# Altium schematic symbol library SchlibUltimate (2).schlib: 211 symbols (part 3 of 4)
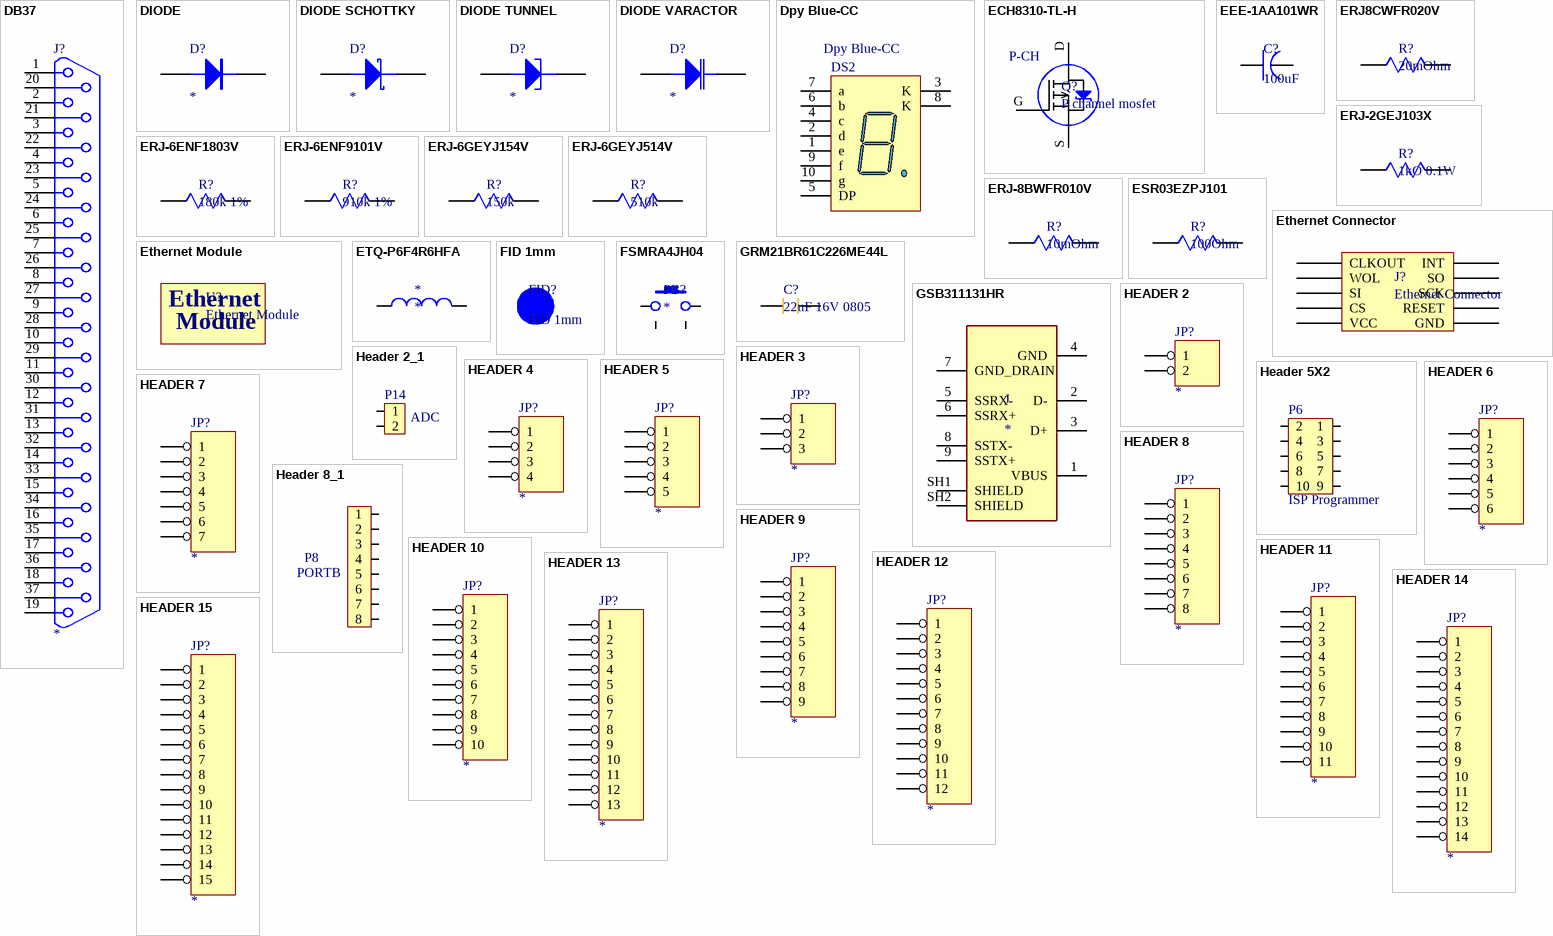
[diagram p7: symbols DB37 to HEADER 15]

## ERJ-6ENF1803V
designator R?, comment 180k 1%
Thick Film Resistors - SMD 0805 180Kohms 1% AEC-Q200; Manufacturer 1: Panasonic; Manufacturer Part Number 1: ERJ-6ENF1803V; Resistance: 180kR; Power Rating: 125mW; Voltage Rating: 150V; Temperature Coefficient: 100ppm/°C; Supplier 1: Digi-Key; Stock 1: 39178; Pricing 1: 1=0.10000, 10=0.08500, 100=0.03290, 1000=0.01445, 2500=0.01248 (USD); RoHS: Yes; Mount: Surface Mount; Case/Package: 0805; Number of Pins: 2; Case Code (Metric): 2012; Case Code (Imperial): 0805; Contact Plating: Tin; Min Operating Temperature: -55°C; Max Operating Temperature: 155°C; Tolerance: 1%; Packaging: Tape and Reel; Package Quantity: 1; Composition: Thick Film; Number of Terminations: 2; Termination: SMD/SMT; Military Standard: Not; Max Power Dissipation: 125mW; Voltage Rating (DC): 150V; Features: Automotive AEC-Q200; Length: 2mm; Height: 0.6mm; Width: 0.049inch; Depth: 1.25mm; Radiation Hardening: No; REACH SVHC: No SVHC; ComponentLink1URL: https://datasheet.ciiva.com/11821/0900766b80f80784-11821551.pdf?src-supplier=RSComponents; ComponentLink1Description: https://datasheet.ciiva.com/11821/0900766b80f80784-11821551.pdf?src-supplier=RSComponents; ComponentLink2URL: https://datasheet.ciiva.com/16758/70260748-16758997.pdf?src-supplier=Allied+Electronics; ComponentLink2Description: https://datasheet.ciiva.com/16758/70260748-16758997.pdf?src-supplier=Allied+Electronics; ComponentLink3URL: https://datasheet.ciiva.com/7836/426256-7836822.pdf?src-supplier=Element14; ComponentLink3Description: https://datasheet.ciiva.com/7836/426256-7836822.pdf?src-supplier=Element14; ComponentLink4URL: https://datasheet.ciiva.com/7836/426256-7836535.pdf?src-supplier=Element14; ComponentLink4Description: https://datasheet.ciiva.com/7836/426256-7836535.pdf?src-supplier=Element14; ComponentLink5URL: https://datasheet.ciiva.com/9185/aoa0000ce2-9185015.pdf?src-supplier=Avnet; ComponentLink5Description: https://datasheet.ciiva.com/9185/aoa0000ce2-9185015.pdf?src-supplier=Avnet; ComponentLink6URL: https://datasheet.ciiva.com/46398/1678782-46398137.pdf?src-supplier=Element14; ComponentLink6Description: https://datasheet.ciiva.com/46398/1678782-46398137.pdf?src-supplier=Element14; ComponentLink7URL: https://datasheet.ciiva.com/5915/426256-5915338.pdf?src-supplier=Farnell; ComponentLink7Description: https://datasheet.ciiva.com/5915/426256-5915338.pdf?src-supplier=Farnell; ComponentLink8URL: https://datasheet.ciiva.com/17207/aoa0000ce2-17207210.pdf?src-supplier=Avnet+Europe; ComponentLink8Description: https://datasheet.ciiva.com/17207/aoa0000ce2-17207210.pdf?src-supplier=Avnet+Europe; ComponentLink9URL: https://datasheet.ciiva.com/28568/1678782-28568746.pdf?src-supplier=Element14; ComponentLink9Description: https://datasheet.ciiva.com/28568/1678782-28568746.pdf?src-supplier=Element14; ComponentLink10URL: https://datasheet.ciiva.com/46398/1678782-46398138.pdf?src-supplier=Element14; ComponentLink10Description: https://datasheet.ciiva.com/46398/1678782-46398138.pdf?src-supplier=Element14; ComponentLink11URL: https://datasheet.ciiva.com/22681/1678782-22681691.pdf?src-supplier=Element14; ComponentLink11Description: https://datasheet.ciiva.com/22681/1678782-22681691.pdf?src-supplier=Element14; ComponentLink12URL: https://datasheet.ciiva.com/16780/70260748-16780877.pdf?src-supplier=Allied+Electronics; ComponentLink12Description: https://datasheet.ciiva.com/16780/70260748-16780877.pdf?src-supplier=Allied+Electronics; ComponentLink13URL: https://datasheet.ciiva.com/30187/aoa0000ce2-30187757.pdf?src-supplier=Onlinecomponents.com; ComponentLink13Description: https://datasheet.ciiva.com/30187/aoa0000ce2-30187757.pdf?src-supplier=Onlinecomponents.com; ComponentLink14URL: https://datasheet.ciiva.com/24024/aoa0000ce2-24024447.pdf?src-supplier=Mouser; ComponentLink14Description: https://datasheet.ciiva.com/24024/aoa0000ce2-24024447.pdf?src-supplier=Mouser; Supplier Part Number 1: P180KCCT-ND
footprint R0805
pins: 1, 2

## ERJ-6ENF9101V
designator R?, comment 910k 1%
Res Thick Film 0805 9.1K Ohm 1% 1/8W +/-100ppm/ßC Molded SMD Punched Carrier T/R; Manufacturer 1: Panasonic; Manufacturer Part Number 1: ERJ-6ENF9101V; Resistance: 9.1kR; Power Rating: 125mW; Voltage Rating: 150V; Temperature Coefficient: 100ppm/°C; Supplier 1: Digi-Key; Stock 1: 3180; Pricing 1: 1=0.10000, 10=0.07200, 100=0.02750, 1000=0.01210, 2500=0.01045 (USD); RoHS: Yes; Mount: Surface Mount; Case/Package: 0805; Case Code (Imperial): 0805; Case Code (Metric): 2012; Contact Plating: Tin; Min Operating Temperature: -55°C; Max Operating Temperature: 155°C; Tolerance: 1%; Packaging: Tape and Reel; Package Quantity: 1; Composition: Thick Film; Number of Terminations: 2; Military Standard: Not; Max Power Dissipation: 125mW; Features: Automotive AEC-Q200; Termination: SMD/SMT; Voltage Rating (DC): 150V; Length: 2mm; Height: 0.6mm; Width: 1.2mm; Depth: 1.25mm; Radiation Hardening: No; REACH SVHC: No SVHC; Lead Free: Lead Free; ComponentLink1URL: https://datasheet.ciiva.com/11821/0900766b80f80784-11821718.pdf?src-supplier=RSComponents; ComponentLink1Description: https://datasheet.ciiva.com/11821/0900766b80f80784-11821718.pdf?src-supplier=RSComponents; ComponentLink2URL: https://datasheet.ciiva.com/16437/aoa0000ce2-16437783.pdf?src-supplier=Future+Electronics; ComponentLink2Description: https://datasheet.ciiva.com/16437/aoa0000ce2-16437783.pdf?src-supplier=Future+Electronics; ComponentLink3URL: https://datasheet.ciiva.com/30163/aoa0000ce2-30163272.pdf?src-supplier=Onlinecomponents.com; ComponentLink3Description: https://datasheet.ciiva.com/30163/aoa0000ce2-30163272.pdf?src-supplier=Onlinecomponents.com; ComponentLink4URL: https://datasheet.ciiva.com/16766/70260748-16766713.pdf?src-supplier=Allied+Electronics; ComponentLink4Description: https://datasheet.ciiva.com/16766/70260748-16766713.pdf?src-supplier=Allied+Electronics; ComponentLink5URL: https://datasheet.ciiva.com/16785/70260748-16785210.pdf?src-supplier=Allied+Electronics; ComponentLink5Description: https://datasheet.ciiva.com/16785/70260748-16785210.pdf?src-supplier=Allied+Electronics; ComponentLink6URL: https://datasheet.ciiva.com/17212/aoa0000ce2-17212221.pdf?src-supplier=Avnet+Europe; ComponentLink6Description: https://datasheet.ciiva.com/17212/aoa0000ce2-17212221.pdf?src-supplier=Avnet+Europe; Supplier Part Number 1: P9.10KCCT-ND
footprint R0805
pins: 1, 2

## ERJ-6GEYJ154V
designator R?, comment 150k
RES SMD 150K OHM 5% 1/8W 0805; Manufacturer 1: Panasonic; Manufacturer Part Number 1: ERJ-6GEYJ154V; Resistance: 150kR; Power Rating: 125mW; Voltage Rating: 150V; Temperature Coefficient: 200ppm/°C; Supplier 1: Digi-Key; Stock 1: 100014; Pricing 1: 1=0.10000, 10=0.05200, 100=0.02120, 1000=0.00954, 2500=0.00828 (USD); RoHS: Yes; Mount: Surface Mount; Case/Package: 0805; Case Code (Metric): 2012; Case Code (Imperial): 0805; Contact Plating: Tin; Min Operating Temperature: -55°C; Max Operating Temperature: 155°C; Tolerance: 5%; Packaging: Tape and Reel; Package Quantity: 5000; Composition: Thick Film; Number of Terminations: 2; Military Standard: Not; Termination: SMD/SMT; Max Power Dissipation: 125mW; Voltage Rating (DC): 150V; Length: 2mm; Height: 0.028inch; Width: 0.049inch; Depth: 1.25mm; Radiation Hardening: No; REACH SVHC: No SVHC; Lead Free: Lead Free; ComponentLink1URL: https://datasheet.ciiva.com/3882/41790015s9557575n1386-3882896.pdf?src-supplier=Arrow+Electronics; ComponentLink1Description: https://datasheet.ciiva.com/3882/41790015s9557575n1386-3882896.pdf?src-supplier=Arrow+Electronics; ComponentLink2URL: https://datasheet.ciiva.com/17207/aoa0000ce1-17207480.pdf?src-supplier=Avnet+Europe; ComponentLink2Description: https://datasheet.ciiva.com/17207/aoa0000ce1-17207480.pdf?src-supplier=Avnet+Europe; ComponentLink3URL: https://datasheet.ciiva.com/43460/1500035-43460137.pdf?src-supplier=Farnell; ComponentLink3Description: https://datasheet.ciiva.com/43460/1500035-43460137.pdf?src-supplier=Farnell; ComponentLink4URL: https://datasheet.ciiva.com/46373/1500035-46373995.pdf?src-supplier=Element14; ComponentLink4Description: https://datasheet.ciiva.com/46373/1500035-46373995.pdf?src-supplier=Element14; ComponentLink5URL: https://datasheet.ciiva.com/16781/70255313-16781804.pdf?src-supplier=Allied+Electronics; ComponentLink5Description: https://datasheet.ciiva.com/16781/70255313-16781804.pdf?src-supplier=Allied+Electronics; ComponentLink6URL: https://datasheet.ciiva.com/28691/1678796-28691981.pdf?src-supplier=Element14; ComponentLink6Description: https://datasheet.ciiva.com/28691/1678796-28691981.pdf?src-supplier=Element14; ComponentLink7URL: https://datasheet.ciiva.com/16516/aoa0000ce1-16516415.pdf?src-supplier=Avnet+Asia; ComponentLink7Description: https://datasheet.ciiva.com/16516/aoa0000ce1-16516415.pdf?src-supplier=Avnet+Asia; Supplier Part Number 1: P150KACT-ND
footprint R0805
pins: 1, 2

## ERJ-6GEYJ514V
designator R?, comment 510k
RES SMD 510K OHM 5% 1/8W 0805; Manufacturer 1: Panasonic; Manufacturer Part Number 1: ERJ-6GEYJ514V; Resistance: 510kR; Power Rating: 125mW; Voltage Rating: 150V; Temperature Coefficient: 200ppm/°C; Supplier 1: Digi-Key; Stock 1: 14917; Pricing 1: 1=0.10000, 10=0.05200, 100=0.02120, 1000=0.00954, 2500=0.00828 (USD); RoHS: Yes; Mount: Surface Mount; Case/Package: 0805; Weight: 0.000194oz; Case Code (Metric): 2012; Case Code (Imperial): 0805; Contact Plating: Tin; Min Operating Temperature: -55°C; Max Operating Temperature: 155°C; Tolerance: 5%; Packaging: Tape and Reel; Package Quantity: 5000; Composition: Thick Film; Number of Terminations: 2; Termination: SMD/SMT; Military Standard: Not; Max Power Dissipation: 125mW; Voltage Rating (DC): 150V; Length: 2mm; Height: 0.6mm; Width: 0.049inch; Depth: 1.25mm; REACH SVHC: No SVHC; Lead Free: Contains Lead; ComponentLink1URL: https://datasheet.ciiva.com/30081/4aoa0000ce1-30081333.pdf?src-supplier=Onlinecomponents.com; ComponentLink1Description: https://datasheet.ciiva.com/30081/4aoa0000ce1-30081333.pdf?src-supplier=Onlinecomponents.com; ComponentLink2URL: https://datasheet.ciiva.com/24163/aoa0000ce1-37422-24163640.pdf?src-supplier=Mouser; ComponentLink2Description: https://datasheet.ciiva.com/24163/aoa0000ce1-37422-24163640.pdf?src-supplier=Mouser; ComponentLink3URL: https://datasheet.ciiva.com/43469/1678796-43469657.pdf?src-supplier=Farnell; ComponentLink3Description: https://datasheet.ciiva.com/43469/1678796-43469657.pdf?src-supplier=Farnell; ComponentLink4URL: https://datasheet.ciiva.com/16767/70255313-16767419.pdf?src-supplier=Allied+Electronics; ComponentLink4Description: https://datasheet.ciiva.com/16767/70255313-16767419.pdf?src-supplier=Allied+Electronics; ComponentLink5URL: https://datasheet.ciiva.com/16771/70255313-16771371.pdf?src-supplier=Allied+Electronics; ComponentLink5Description: https://datasheet.ciiva.com/16771/70255313-16771371.pdf?src-supplier=Allied+Electronics; ComponentLink6URL: https://datasheet.ciiva.com/9181/aoa0000ce1-9181469.pdf?src-supplier=Avnet; ComponentLink6Description: https://datasheet.ciiva.com/9181/aoa0000ce1-9181469.pdf?src-supplier=Avnet; ComponentLink7URL: https://datasheet.ciiva.com/8081/aoa0000ce1-8081327.pdf?src-supplier=Element14; ComponentLink7Description: https://datasheet.ciiva.com/8081/aoa0000ce1-8081327.pdf?src-supplier=Element14; Supplier Part Number 1: P510KACT-ND
footprint R0805
pins: 1, 2

## ERJ-8BWFR010V
designator R?, comment 10mOhm
PANASONIC - ERJ-8BWFR010V - SMD Current Sense Resistor, 0.01 ohm, ERJ8B Series, 1206 [3216 Metric], 1 W, ± 1%, Thick Film; Resistance: 10mR; Power Rating: 1W; Temperature Coefficient: 200ppm/°C; Supplier 1: Digi-Key; Manufacturer 1: Panasonic; Manufacturer Part Number 1: ERJ-8BWFR010V; Stock 1: 16754; Pricing 1: 1=0.60000, 10=0.50000, 100=0.33550, 1000=0.19632, 2500=0.19418 (USD); RoHS: Yes; Mount: Surface Mount; Case/Package: 1206; Case Code (Imperial): 1206; Case Code (Metric): 3216; Contact Plating: Tin; Min Operating Temperature: -55°C; Max Operating Temperature: 155°C; Tolerance: 1%; Packaging: Tape and Reel; Package Quantity: 1; Composition: Thick Film,Low-Ohm-Resistor; Termination: SMD/SMT; Number of Terminations: 2; Military Standard: Not; Max Power Dissipation: 1W; Features: Automotive AEC-Q200; Length: 3.2mm; Height: 0.65mm; Width: 1.6mm; Depth: 1.6mm; Radiation Hardening: No; REACH SVHC: No SVHC; Lead Free: Lead Free; ComponentLink1URL: https://datasheet.ciiva.com/11811/0900766b8126441d-11811746.pdf?src-supplier=RSComponents; ComponentLink1Description: https://datasheet.ciiva.com/11811/0900766b8126441d-11811746.pdf?src-supplier=RSComponents; ComponentLink2URL: https://datasheet.ciiva.com/9194/aoa0000ce3-9194119.pdf?src-supplier=Avnet; ComponentLink2Description: https://datasheet.ciiva.com/9194/aoa0000ce3-9194119.pdf?src-supplier=Avnet; ComponentLink3URL: https://datasheet.ciiva.com/30095/6aoa0000ce3-30095514.pdf?src-supplier=Onlinecomponents.com; ComponentLink3Description: https://datasheet.ciiva.com/30095/6aoa0000ce3-30095514.pdf?src-supplier=Onlinecomponents.com; ComponentLink4URL: https://datasheet.ciiva.com/48532/erj-eng-tds-48532746.pdf?src-supplier=Distrelec; ComponentLink4Description: https://datasheet.ciiva.com/48532/erj-eng-tds-48532746.pdf?src-supplier=Distrelec; ComponentLink5URL: https://datasheet.ciiva.com/2451/aoa0000ce3-2451517.pdf?src-supplier=Digi-Key; ComponentLink5Description: https://datasheet.ciiva.com/2451/aoa0000ce3-2451517.pdf?src-supplier=Digi-Key; ComponentLink6URL: https://datasheet.ciiva.com/2451/aoa0000ce3-2451518.pdf?src-supplier=Digi-Key; ComponentLink6Description: https://datasheet.ciiva.com/2451/aoa0000ce3-2451518.pdf?src-supplier=Digi-Key; ComponentLink7URL: https://datasheet.ciiva.com/17212/aoa0000ce3-17212030.pdf?src-supplier=Avnet+Europe; ComponentLink7Description: https://datasheet.ciiva.com/17212/aoa0000ce3-17212030.pdf?src-supplier=Avnet+Europe; ComponentLink8URL: https://datasheet.ciiva.com/2451/aoa0000ce3-2451519.pdf?src-supplier=Digi-Key; ComponentLink8Description: https://datasheet.ciiva.com/2451/aoa0000ce3-2451519.pdf?src-supplier=Digi-Key; ComponentLink9URL: https://datasheet.ciiva.com/28532/39793-28532991.pdf?src-supplier=Element14; ComponentLink9Description: https://datasheet.ciiva.com/28532/39793-28532991.pdf?src-supplier=Element14; Supplier Part Number 1: P.010AUCT-ND
footprint R1206
pins: 1, 2

## ESR03EZPJ101
designator R?, comment 100Ohm
ROHM - ESR03EZPJ101 - SMD Chip Resistor, Anti-Surge, 0603 [1608 Metric], 100 ohm, ESR Series, 150 V, Thick Film, 250 mW - SMD Chip Resistor, Anti-Surge, 0603 [1608 Metric], 100 ohm, ESR Series, 150 V, Thick Film, 250 mW; Temperature Coefficient: 200ppm/°C; Power Rating: 200mW; Resistance: 100R; Tolerance: 5%; Supplier 1: Digi-Key; Manufacturer 1: Rohm; Manufacturer Part Number 1: ESR03EZPJ101; Stock 1: 68293; Pricing 1: 1=0.10000, 10=0.07600, 100=0.02920, 1000=0.01283, 2500=0.01108 (USD); RoHS: Yes; Case/Package: 0603; Lead Free: Lead Free; ComponentLink1URL: https://datasheet.ciiva.com/16218/esr-16218543.pdf?src-supplier=Future+Electronics; ComponentLink1Description: https://datasheet.ciiva.com/16218/esr-16218543.pdf?src-supplier=Future+Electronics; Supplier Part Number 1: RHM100DCT-ND
footprint R0603
pins: 1, 2

## Ethernet Connector
designator J?
footprint Ethernet Connector
pins: CLKOUT, CS, GND, INT, RESET, SCK, SI, SO, VCC, WOL

## Ethernet Module
designator U?
footprint Ethernet Module
text: Ethernet; Module

## ETQ-P6F4R6HFA
designator *
Power Choke Molded Wirewound 6.6uH/4.6uH 25% 100KHz 9.3A 6.48mOhm DCR T/R; Manufacturer 1: Panasonic; Manufacturer Part Number 1: ETQ-P6F4R6HFA; Core Material: Metal,Composite; Inductance: 4.6uH; DC Resistance (DCR): 6.48mR; Shielding: Unshielded; Saturation Current: 6.2A; Current: 16A; Insulation Resistance: 10MR; Supplier 1: Farnell; Stock 1: 0; Pricing 1: 1=2.47000, 10=1.94000, 50=1.63000, 100=1.28000, 200=1.23000, 500=1.17000, 2500=1.12000 (GBP); RoHS: Yes; Mount: Surface Mount; Case/Package: SMD/SMT; Min Operating Temperature: -40°C; Max Operating Temperature: 150°C; Tolerance: 25%; Max DC Current: 9.3A; Packaging: Tape and Reel; Inductance Tolerance: 25%; Package Quantity: 500; Current Rating: 9.3A; Termination: SMD/SMT; Test Frequency: 100kHz; RMS Current (Irms): 9.3A; DC Current: 9.3A; Military Standard: Not; Length: 12.5mm; Height: 5.7mm; Depth: 12.8mm; Width: 12.5mm; REACH SVHC: No SVHC; Lead Free: Lead Free; ComponentLink1URL: https://datasheet.ciiva.com/11799/0900766b80befd5f-11799896.pdf?src-supplier=RSComponents; ComponentLink1Description: https://datasheet.ciiva.com/11799/0900766b80befd5f-11799896.pdf?src-supplier=RSComponents; ComponentLink2URL: https://datasheet.ciiva.com/6057/1672243-6057434.pdf?src-supplier=Farnell; ComponentLink2Description: https://datasheet.ciiva.com/6057/1672243-6057434.pdf?src-supplier=Farnell; ComponentLink3URL: https://datasheet.ciiva.com/43484/34083-43484636.pdf?src-supplier=Farnell; ComponentLink3Description: https://datasheet.ciiva.com/43484/34083-43484636.pdf?src-supplier=Farnell; ComponentLink4URL: https://datasheet.ciiva.com/43485/1672243-43485382.pdf?src-supplier=Farnell; ComponentLink4Description: https://datasheet.ciiva.com/43485/1672243-43485382.pdf?src-supplier=Farnell; ComponentLink5URL: https://datasheet.ciiva.com/46376/1672243-46376630.pdf?src-supplier=Element14; ComponentLink5Description: https://datasheet.ciiva.com/46376/1672243-46376630.pdf?src-supplier=Element14; ComponentLink6URL: https://datasheet.ciiva.com/46388/34083-46388345.pdf?src-supplier=Element14; ComponentLink6Description: https://datasheet.ciiva.com/46388/34083-46388345.pdf?src-supplier=Element14; ComponentLink7URL: https://datasheet.ciiva.com/46388/1672243-46388346.pdf?src-supplier=Element14; ComponentLink7Description: https://datasheet.ciiva.com/46388/1672243-46388346.pdf?src-supplier=Element14; ComponentLink8URL: https://datasheet.ciiva.com/16940/70068940-16940747.pdf?src-supplier=Allied+Electronics; ComponentLink8Description: https://datasheet.ciiva.com/16940/70068940-16940747.pdf?src-supplier=Allied+Electronics; ComponentLink9URL: https://datasheet.ciiva.com/30153/2agl0000ce1-30153437.pdf?src-supplier=Onlinecomponents.com; ComponentLink9Description: https://datasheet.ciiva.com/30153/2agl0000ce1-30153437.pdf?src-supplier=Onlinecomponents.com; Supplier Part Number 1: 9694188
pins: 1, 2

## FID 1mm
designator FID?  (no BOM)
footprint FID

## FSMRA4JH04
designator PB?
TE CONNECTIVITY - FSMRA4JH04 - SWITCH, TACT, SPST; Mechanical Life: 100000Cycles; Illumination Type: Illuminated; Contact Current Rating: 50mA; Voltage Rating: 24V; Operating Force: 1.6N; Actuator Length: 5.74mm; Supplier 1: Mouser; Manufacturer 1: TE Connectivity; Manufacturer Part Number 1: FSMRA4JH04; Stock 1: 20272; Pricing 1: 1=0.25000, 10=0.25000, 25=0.23300, 100=0.22000, 250=0.20700, 500=0.19000 (USD); RoHS: Yes; Mount: Through Hole,PCB; Contact Material: Copper Alloy; Min Operating Temperature: -35°C; Max Operating Temperature: 85°C; Throw Configuration: SPST; Termination: Solder; Voltage Rating (DC): 24V; Current Rating: 50mA; Package Quantity: 1000; Packaging: Bulk; Length: 7.11mm; Width: 7.01mm; REACH SVHC: Unknown; ComponentLink1URL: https://datasheet.ciiva.com/5809/606398-5809313.pdf?src-supplier=Farnell; ComponentLink1Description: https://datasheet.ciiva.com/5809/606398-5809313.pdf?src-supplier=Farnell; ComponentLink2URL: https://datasheet.ciiva.com/7635/606398-7635446.pdf?src-supplier=Element14; ComponentLink2Description: https://datasheet.ciiva.com/7635/606398-7635446.pdf?src-supplier=Element14; Supplier Part Number 1: 506-FSMRA4JH04
footprint PB Right angle through hole
pins: 1, 2, 3 MH, 4 MH

## GRM21BR61C226ME44L
designator C?, comment 22uF 16V 0805
Cap Ceramic 22uF 16V X5R 20% Pad SMD 0805 85C T/R
footprint Cap 0805
pins: 1, 2

## GSB311131HR
designator J
USB-A _USB TYPE-A_ USB 3.0 _USB 3.1 Gen 1, Superspeed_ Receptacle Connector 9 Position Through Hole, Right Angle; MF: Amphenol ICC; MP: GSB311131HR; Package: None; Digi-Key_Purchase_URL: https://www.digikey.ru/product-detail/en/amphenol-icc-commercial-products/GSB311131HR/GSB311131HR-ND/2187173?utm_source=snapeda&utm_medium=aggregator&utm_campaign=symbol; Value: *; SnapEDA_Link: https://www.snapeda.com/parts/GSB311131HR/Amphenol%20FCI/view-part/229215/?ref=snap; Digi-Key_Part_Number: GSB311131HR-ND
footprint GSB311131HR
pins: 1 VBUS, 2 D-, 3 D+, 4 GND, 5 SSRX-, 6 SSRX+, 7 GND_DRAIN, 8 SSTX-, 9 SSTX+, SH1 SHIELD, SH2 SHIELD

## HEADER 2
designator JP?
footprint RAD0.2
footprint SIP2
footprint BNC
pins: 1, 2

## Header 2_1
designator P14, comment ADC
Header, 2-Pin; LatestRevisionDate: 17-Jul-2002; LatestRevisionNote: Re-released for DXP Platform.; Publisher: Altium Limited
footprint HDR1X2 (Connector; Header; 2 Position)
signal-integrity model Connector
footprint 10X02MTA
footprint MA02-1
footprint HDR1X2H (Connector; Header; 2 Position; Right Angle)
pins: 1, 2

## HEADER 3
designator JP?
footprint SIP3
pins: 1, 2, 3

## HEADER 4
designator JP?
4 Pin Header
footprint SIP4
pins: 1, 2, 3, 4

## HEADER 5
designator JP?
footprint SIP5
pins: 1, 2, 3, 4, 5

## Header 5X2
designator P6, comment ISP Programmer
Header, 5-Pin, Dual row; LatestRevisionDate: 17-Jul-2002; LatestRevisionNote: Re-released for DXP Platform.; Publisher: Altium Limited
footprint HDR2X5 (Connector; Header; 5x2 Position)
signal-integrity model Connector
footprint MA05-2
pins: 1, 2, 3, 4, 5, 6, 7, 8, 9, 10

## HEADER 6
designator JP?
footprint SIP6
pins: 1, 2, 3, 4, 5, 6

## HEADER 7
designator JP?
footprint SIP7
pins: 1, 2, 3, 4, 5, 6, 7

## HEADER 8
designator JP?
8 Pin Header
footprint SIP8
pins: 1, 2, 3, 4, 5, 6, 7, 8

## Header 8_1
designator P8, comment PORTB
Header, 8-Pin; LatestRevisionDate: 17-Jul-2002; LatestRevisionNote: Re-released for DXP Platform.; Publisher: Altium Limited
footprint HDR1X8 (Connector; Header; 8 Position)
signal-integrity model Connector
footprint 10X08MTA
footprint HDR1X8H (Connector; Header; 8 Position; Right Angle)
footprint MA08-1
pins: 1, 2, 3, 4, 5, 6, 7, 8

## HEADER 9
designator JP?
footprint SIP9
pins: 1, 2, 3, 4, 5, 6, 7, 8, 9

## HEADER 10
designator JP?
footprint SIP10
pins: 1, 2, 3, 4, 5, 6, 7, 8, 9, 10

## HEADER 11
designator JP?
footprint SIP11
pins: 1, 2, 3, 4, 5, 6, 7, 8, 9, 10, 11

## HEADER 12
designator JP?
12 Pin Header
footprint SIP12
pins: 1, 2, 3, 4, 5, 6, 7, 8, 9, 10, 11, 12

## HEADER 13
designator JP?
footprint SIP13
pins: 1, 2, 3, 4, 5, 6, 7, 8, 9, 10, 11, 12, 13

## HEADER 14
designator JP?
footprint SIP14
pins: 1, 2, 3, 4, 5, 6, 7, 8, 9, 10, 11, 12, 13, 14

## HEADER 15
designator JP?
footprint SIP15
pins: 1, 2, 3, 4, 5, 6, 7, 8, 9, 10, 11, 12, 13, 14, 15

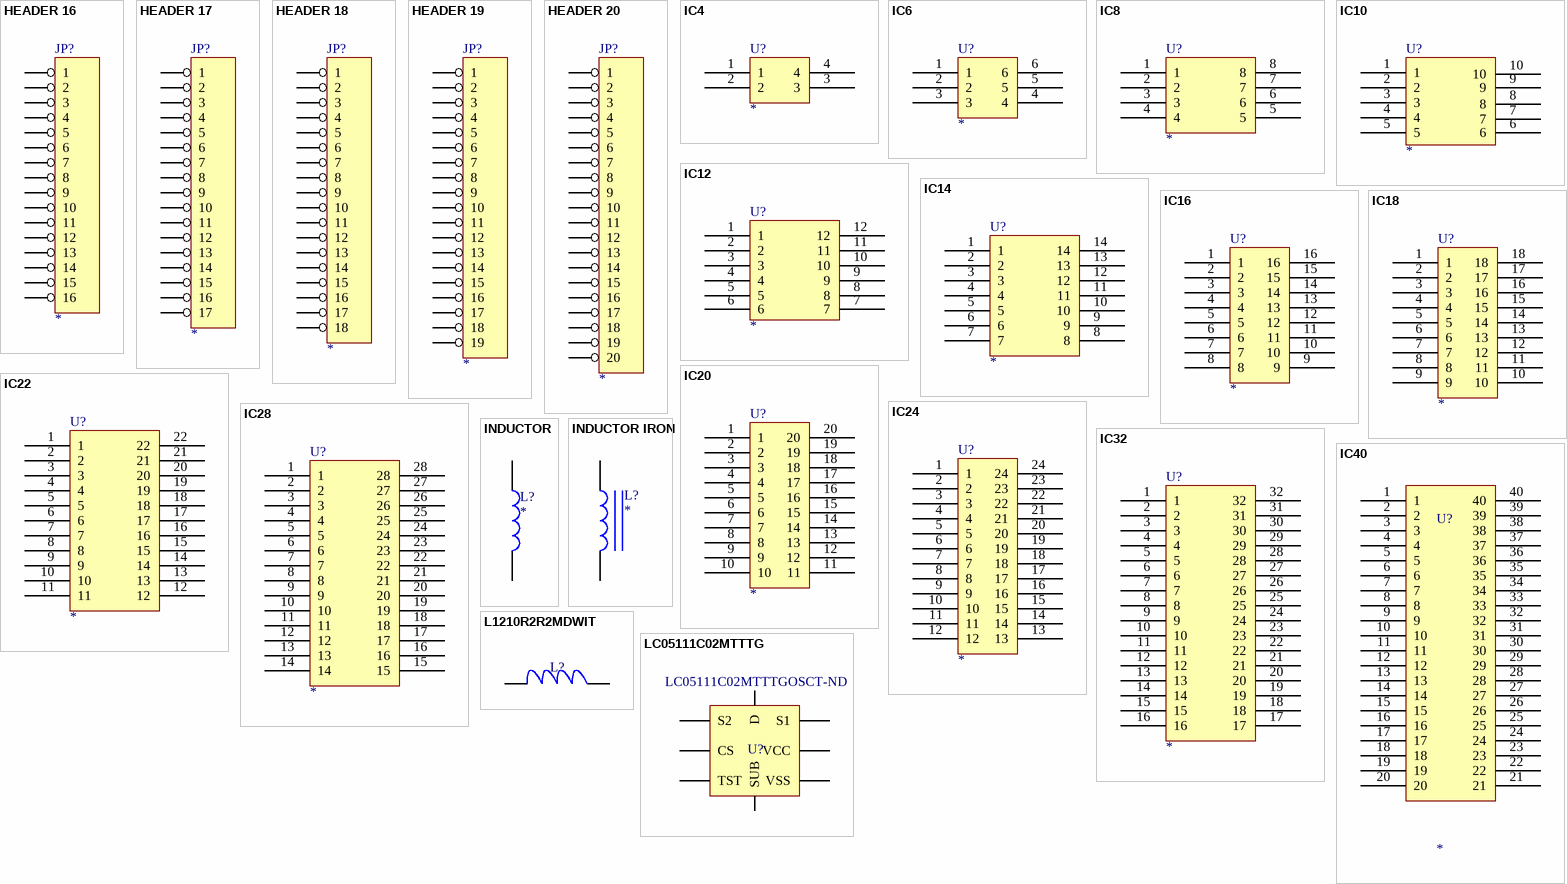
[diagram p3: symbols HEADER 16 to LC05111C02MTTTG]

## HEADER 16
designator JP?
footprint SIP16
pins: 1, 2, 3, 4, 5, 6, 7, 8, 9, 10, 11, 12, 13, 14, 15, 16

## HEADER 17
designator JP?
footprint SIP17
pins: 1, 2, 3, 4, 5, 6, 7, 8, 9, 10, 11, 12, 13, 14, 15, 16, 17

## HEADER 18
designator JP?
footprint SIP18
pins: 1, 2, 3, 4, 5, 6, 7, 8, 9, 10, 11, 12, 13, 14, 15, 16, 17, 18

## HEADER 19
designator JP?
footprint SIP19
pins: 1, 2, 3, 4, 5, 6, 7, 8, 9, 10, 11, 12, 13, 14, 15, 16, 17, 18, 19

## HEADER 20
designator JP?
footprint SIP20
pins: 1, 2, 3, 4, 5, 6, 7, 8, 9, 10, 11, 12, 13, 14, 15, 16, 17, 18, 19, 20

## IC4
designator U?
footprint DIP4
pins: 1, 2, 3, 4

## IC6
designator U?
footprint DIP6
pins: 1, 2, 3, 4, 5, 6

## IC8
designator U?
footprint DIP8
pins: 1, 2, 3, 4, 5, 6, 7, 8

## IC10
designator U?
footprint DIP10
pins: 1, 2, 3, 4, 5, 6, 7, 8, 9, 10

## IC12
designator U?
footprint DIP12
pins: 1, 2, 3, 4, 5, 6, 7, 8, 9, 10, 11, 12

## IC14
designator U?
footprint DIP14
pins: 1, 2, 3, 4, 5, 6, 7, 8, 9, 10, 11, 12, 13, 14

## IC16
designator U?
footprint DIP16
pins: 1, 2, 3, 4, 5, 6, 7, 8, 9, 10, 11, 12, 13, 14, 15, 16

## IC18
designator U?
footprint DIP18
pins: 1, 2, 3, 4, 5, 6, 7, 8, 9, 10, 11, 12, 13, 14, 15, 16, 17, 18

## IC20
designator U?
footprint DIP20
pins: 1, 2, 3, 4, 5, 6, 7, 8, 9, 10, 11, 12, 13, 14, 15, 16, 17, 18, 19, 20

## IC22
designator U?
footprint DIP22
pins: 1, 2, 3, 4, 5, 6, 7, 8, 9, 10, 11, 12, 13, 14, 15, 16, 17, 18, 19, 20, 21, 22

## IC24
designator U?
footprint DIP24
pins: 1, 2, 3, 4, 5, 6, 7, 8, 9, 10, 11, 12, 13, 14, 15, 16, 17, 18, 19, 20, 21, 22, 23, 24

## IC28
designator U?
footprint DIP28
pins: 1, 2, 3, 4, 5, 6, 7, 8, 9, 10, 11, 12, 13, 14, 15, 16, 17, 18, 19, 20, 21, 22, 23, 24, 25, 26, 27, 28

## IC32
designator U?
footprint DIP32
pins: 1, 2, 3, 4, 5, 6, 7, 8, 9, 10, 11, 12, 13, 14, 15, 16, 17, 18, 19, 20, 21, 22, 23, 24, 25, 26, 27, 28, 29, 30, 31, 32

## IC40
designator U?
footprint DIP40
pins: 1, 2, 3, 4, 5, 6, 7, 8, 9, 10, 11, 12, 13, 14, 15, 16, 17, 18, 19, 20, 21, 22, 23, 24, 25, 26, 27, 28, 29, 30, 31, 32, 33, 34, 35, 36, 37, 38, 39, 40

## INDUCTOR
designator L?
footprint AXIAL0.3
pins: 1, 2

## INDUCTOR IRON
designator L?
footprint AXIAL0.9
pins: 1, 2

## L1210R2R2MDWIT
designator L?  (value not drawn)
FIXED IND 2.2UH 2A 80 MOHM SMD; Manufacturer 1: KEMET; Manufacturer Part Number 1: L1210R2R2MDWIT; Core Material: Ferrite; Tolerance: 20%; Shielding: Unshielded; Self Resonant Frequency: 190MHz; DC Resistance (DCR): 80mR; Test Frequency: 100kHz; DC Current: 1.13A; Supplier 1: Digi-Key; Stock 1: 14911; Pricing 1: 1=0.55000, 10=0.47900, 100=0.34210, 500=0.28738 (USD); RoHS: Yes; Mount: Surface Mount; Case/Package: 1210; Case Code (Metric): 3225; Case Code (Imperial): 1210; Min Operating Temperature: -40°C; Max Operating Temperature: 105°C; Package Quantity: 1000; Current Rating: 2A; Packaging: Tape and Reel; Inductance Tolerance: 20%; Composition: Wirewound,Ceramic; Inductance: 2.2uH; Max DC Current: 2A; Termination: SMD/SMT; Military Standard: Not; Length: 0.126inch; Height: 2.5mm; Width: 0.098inch; Height - Seated (Max): 0.106inch; Depth: 2.7mm; Radiation Hardening: No; REACH SVHC: No SVHC; ComponentLink1URL: https://datasheet.ciiva.com/4957/f3115-4957838.pdf?src-supplier=Mouser; ComponentLink1Description: https://datasheet.ciiva.com/4957/f3115-4957838.pdf?src-supplier=Mouser; ComponentLink2URL: https://datasheet.ciiva.com/17280/f3115-17280270.pdf?src-supplier=Avnet+Europe; ComponentLink2Description: https://datasheet.ciiva.com/17280/f3115-17280270.pdf?src-supplier=Avnet+Europe; ComponentLink3URL: https://datasheet.ciiva.com/22685/27262-22685038.pdf?src-supplier=Element14; ComponentLink3Description: https://datasheet.ciiva.com/22685/27262-22685038.pdf?src-supplier=Element14; ComponentLink4URL: https://datasheet.ciiva.com/6691/f3115-6691487.pdf?src-supplier=Digi-Key; ComponentLink4Description: https://datasheet.ciiva.com/6691/f3115-6691487.pdf?src-supplier=Digi-Key; ComponentLink5URL: https://datasheet.ciiva.com/8512/f3115-8512543.pdf?src-supplier=Avnet; ComponentLink5Description: https://datasheet.ciiva.com/8512/f3115-8512543.pdf?src-supplier=Avnet; Supplier Part Number 1: 399-9598-1-ND
footprint Inductor smd
pins: 1, 2

## LC05111C02MTTTG
designator U?  Supplier Part Number 1: LC05111C02MTTTGOSCT-ND  (hidden comment: *)
IC BATT PROTECTION LI-ION 6WDFN; Manufacturer 1: ON Semiconductor; Manufacturer Part Number 1: LC05111C02MTTTG; Fault Protection: Over Current; Operating Supply Current: 3uA; Max Power Dissipation: 350mW; Number of Cells: 1; Operating Supply Voltage: 4.5V; Supplier 1: Digi-Key; Stock 1: 2451; Pricing 1: 1=1.16000, 10=1.03300, 25=0.98000, 100=0.75250, 250=0.66500, 500=0.63000, 1000=0.49000 (USD); RoHS: Yes; Mount: Surface Mount; Number of Pins: 6; Min Operating Temperature: -40°C; Max Operating Temperature: 85°C; Packaging: Tape and Reel; Package Quantity: 4000; Length: 4mm; Height: 0.8mm; Width: 2.6mm; Radiation Hardening: No; Lead Free: Lead Free; ComponentLink1URL: http://www.mouser.com/ds/2/308/LC05111CMT-D-522471.pdf?src-supplier=Mouser; ComponentLink1Description: http://www.mouser.com/ds/2/308/LC05111CMT-D-522471.pdf?src-supplier=Mouser; ComponentLink2URL: http://www.alliedelec.com/images/products/datasheets/bm/ON_SEMICONDUCTOR/70547338.pdf?src-supplier=Allied+Electronics; ComponentLink2Description: http://www.alliedelec.com/images/products/datasheets/bm/ON_SEMICONDUCTOR/70547338.pdf?src-supplier=Allied+Electronics; ComponentLink3URL: http://www.farnell.com/datasheets/2255349.pdf?src-supplier=Farnell; ComponentLink3Description: http://www.farnell.com/datasheets/2255349.pdf?src-supplier=Farnell; ComponentLink4URL: http://www.onsemi.com/pub/Collateral/ENA2338-D.PDF?src-supplier=Avnet; ComponentLink4Description: http://www.onsemi.com/pub/Collateral/ENA2338-D.PDF?src-supplier=Avnet; ComponentLink5URL: http://www.onsemi.com/pub/Collateral/LC05111CMT-D.PDF?src-supplier=Digi-Key; ComponentLink5Description: http://www.onsemi.com/pub/Collateral/LC05111CMT-D.PDF?src-supplier=Digi-Key
footprint LC05111C02MTTTGOSCT
pins: 1 S2, 2 CS, 3 TST, 4 VSS, 5 VCC, 6 S1, 7 D, 8 SUB

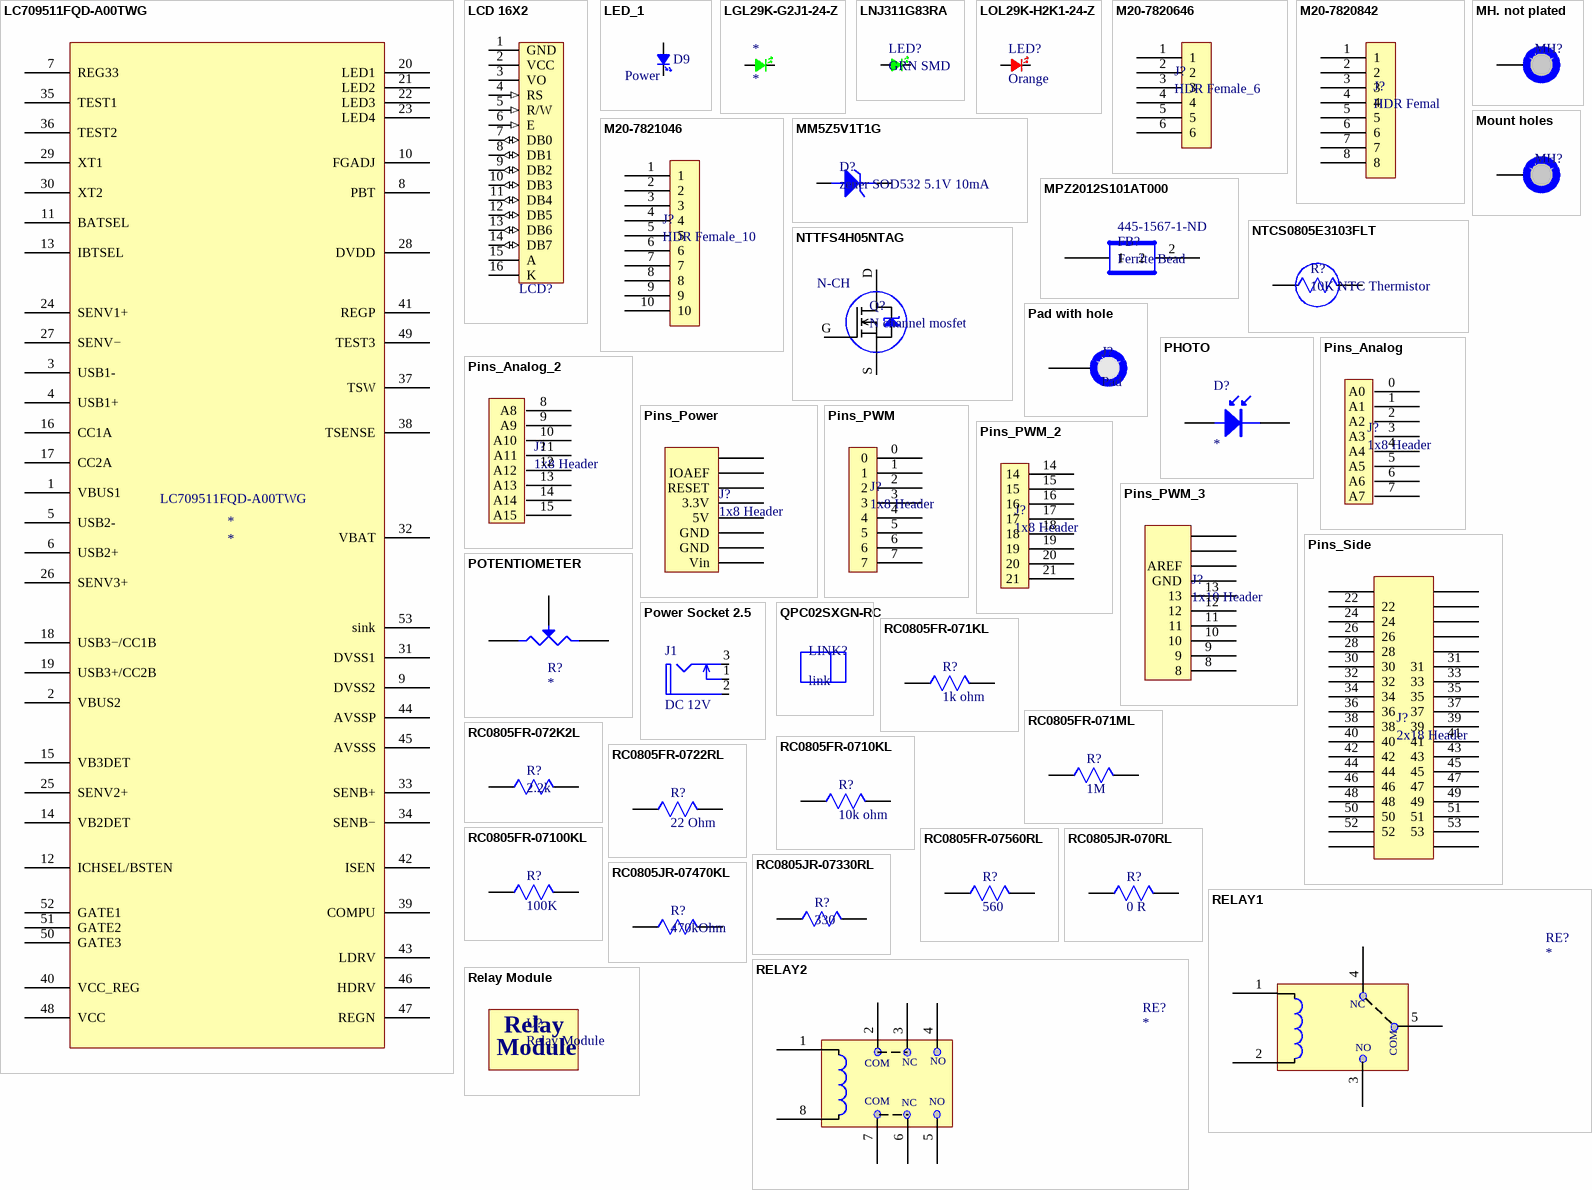
[diagram p4: symbols LC709511FQD-A00TWG to Relay Module]

## LC709511FQD-A00TWG
designator *  Supplier Part Number 1: LC709511FQD-A00TWG
Power Bank Controller, USB Type-C & Quick Charge™ 3.0, for 1-Cell Li-Ion and Li-Poly Battery; Manufacturer 1: ON Semiconductor; Supplier 1: Arrow; Manufacturer Part Number 1: LC709511FQD-A00TWG; Stock 1: 2696; Pricing 1: 1=3.15600, 10=3.08000, 25=3.03900, 100=2.89000, 250=2.86400, 500=2.83690, 1000=2.81000, 3000=3.45600, 30000=3.42400, 300000=3.22800, 1500000=3.10500, 3000000=3.10300 (USD); RoHS: No; ComponentLink1URL: http://www.onsemi.com/pub/Collateral/LC709511F-D.PDF?src-supplier=Digi-Key; ComponentLink1Description: http://www.onsemi.com/pub/Collateral/LC709511F-D.PDF?src-supplier=Digi-Key
footprint Quad52
pins: 1 VBUS1, 2 VBUS2, 3 USB1-, 4 USB1+, 5 USB2-, 6 USB2+, 7 REG33, 8 PBT, 9 DVSS2, 10 FGADJ, 11 BATSEL, 12 ICHSEL/BSTEN, 13 IBTSEL, 14 VB2DET, 15 VB3DET, 16 CC1A, 17 CC2A, 18 USB3−/CC1B, 19 USB3+/CC2B, 20 LED1, 21 LED2, 22 LED3, 23 LED4, 24 SENV1+, 25 SENV2+, 26 SENV3+, 27 SENV−, 28 DVDD, 29 XT1, 30 XT2, 31 DVSS1, 32 VBAT, 33 SENB+, 34 SENB−, 35 TEST1, 36 TEST2, 37 TSW, 38 TSENSE, 39 COMPU, 40 VCC_REG, 41 REGP, 42 ISEN, 43 LDRV, 44 AVSSP, 45 AVSSS, 46 HDRV, 47 REGN, 48 VCC, 49 TEST3, 50 GATE3, 51 GATE2, 52 GATE1, 53 sink

## LCD 16X2
designator LCD?  (value not drawn)
LCD 16X2 Character lcd
footprint My_LCD 16x2-A
pins: 1 GND (power), 2 VCC (power), 3 VO, 4 RS (in), 5 R/W (in), 6 E (in), 7 DB0 (io), 8 DB1 (io), 9 DB2 (io), 10 DB3 (io), 11 DB4 (io), 12 DB5 (io), 13 DB6 (io), 14 DB7 (io), 15 A, 16 K
1 alternate drawing of the same symbol

## LED_1
designator D9, comment Power
footprint LED-03 G (Light emitting diode dia 3mm green color)
footprint LED-03 R (Light emitting diode dia 3mm red color)
footprint LED-03 Y (Light emitting diode dia 3mm yellow color)
footprint LED-05 C (Light emitting diode dia 5mm clear color)
footprint LED-05 G (Light emitting diode dia 5mm green color)
footprint LED-05 R (Light emitting diode dia 5mm red color)
footprint LED-05 Y (Light emitting diode dia 5mm yellow color)
footprint CHIPLED_0805_G - duplicate; pin to pad 1>A 2>C
footprint CHIPLED_0805_Y; pin to pad 1>A 2>C
footprint CHIPLED_0805_R - duplicate; pin to pad 1>A 2>C
pins: 1, 2

## LGL29K-G2J1-24-Z
designator *
LED Uni-Color Green 572nm 2-Pin Chip 0603(1608Metric) T/R; Manufacturer 1: Osram Opto; Manufacturer Part Number 1: LGL29K-G2J1-24-Z; Lens Color: White; Forward Current: 20mA; Forward Voltage: 2.2V; Luminous Intensity: 5.6mcd; Viewing Angle: 160°; Lens Style: Flat,Diffused,Colorless,Rectangular; Test Current: 2mA; Dominant Wavelength: 570nm; Luminous Flux: 0.012lm; Number of LEDs: 1; Lens Transparency: Diffused; Reverse Voltage: 12V; Lens Size: 0.8mm; Supplier 1: Digi-Key; Stock 1: 127314; Pricing 1: 1=0.50000, 10=0.36300, 100=0.23730, 500=0.17054, 1000=0.13347, 2500=0.12235 (USD); RoHS: Yes; Mount: Surface Mount; Case/Package: 0603; Number of Pins: 2; Color: Green; Case Code (Metric): 1608; Case Code (Imperial): 0603; Min Operating Temperature: -40°C; Max Operating Temperature: 100°C; Illumination Color: Green; Packaging: Tape and Reel; Package Quantity: 5000; Number of Elements: 1; Length: 1.3mm; Height: 0.65mm; Width: 0.8mm; Depth: 0.8mm; Radiation Hardening: No; ComponentLink1URL: https://datasheet.ciiva.com/4689/g-l29k-39844-4689584.pdf?src-supplier=Mouser; ComponentLink1Description: https://datasheet.ciiva.com/4689/g-l29k-39844-4689584.pdf?src-supplier=Mouser; ComponentLink2URL: https://datasheet.ciiva.com/15198/getdatasheetpartid-571127-15198411.pdf?src-supplier=Verical; ComponentLink2Description: https://datasheet.ciiva.com/15198/getdatasheetpartid-571127-15198411.pdf?src-supplier=Verical; ComponentLink3URL: https://datasheet.ciiva.com/2112/00077107-0-2112888.pdf?src-supplier=Digi-Key; ComponentLink3Description: https://datasheet.ciiva.com/2112/00077107-0-2112888.pdf?src-supplier=Digi-Key; ComponentLink4URL: https://datasheet.ciiva.com/2112/00077107-0-2112886.pdf?src-supplier=Digi-Key; ComponentLink4Description: https://datasheet.ciiva.com/2112/00077107-0-2112886.pdf?src-supplier=Digi-Key; ComponentLink5URL: https://datasheet.ciiva.com/2112/00077107-0-2112887.pdf?src-supplier=Digi-Key; ComponentLink5Description: https://datasheet.ciiva.com/2112/00077107-0-2112887.pdf?src-supplier=Digi-Key; Supplier Part Number 1: 475-2709-1-ND
footprint Led sfsmntd
pins: 1 Cathode, 2 Anode

## LNJ311G83RA
designator LED?, comment GRN SMD
Led Green SMD; Manufacturer 1: Panasonic SSG; Manufacturer Part Number 1: LNJ311G83RA; Lens Style: Diffused; Forward Voltage: 2.03V; Wavelength: 575nm; Luminous Intensity: 12mcd; Test Current: 10mA; Supplier 1: Digi-Key; Stock 1: 2890; Pricing 1: 1=0.56000, 10=0.40000, 100=0.26130, 500=0.18780, 1000=0.14697 (USD); RoHS: Yes; Mount: Surface Mount; Case/Package: 1206; Case Code (Metric): 3216; Case Code (Imperial): 1206; Color: Green; Packaging: Tape and Reel; Package Quantity: 3000; Length: 3.2mm; Height: 1.1mm; Width: 1.6mm; Lead Free: Lead Free; ComponentLink1URL: https://datasheet.ciiva.com/2122/lnj311g83ra-2122816.pdf?src-supplier=Digi-Key; ComponentLink1Description: https://datasheet.ciiva.com/2122/lnj311g83ra-2122816.pdf?src-supplier=Digi-Key; ComponentLink2URL: https://datasheet.ciiva.com/2122/lnj311g83ra-2122817.pdf?src-supplier=Digi-Key; ComponentLink2Description: https://datasheet.ciiva.com/2122/lnj311g83ra-2122817.pdf?src-supplier=Digi-Key; ComponentLink3URL: https://datasheet.ciiva.com/2122/lnj311g83ra-2122818.pdf?src-supplier=Digi-Key; ComponentLink3Description: https://datasheet.ciiva.com/2122/lnj311g83ra-2122818.pdf?src-supplier=Digi-Key; Supplier Part Number 1: P11537CT-ND
footprint GRN SMD LED
pins: 1 Cathode, 2 Anode

## LOL29K-H2K1-24-Z
designator LED?, comment Orange
LED ORANGE DIFFUSED 0603 SMD; Manufacturer 1: Osram Opto; Manufacturer Part Number 1: LOL29K-H2K1-24-Z; Forward Current: 20mA; Forward Voltage: 1.8V; Luminous Intensity: 6.3mcd; Viewing Angle: 160°; Lens Style: Diffused,Colorless,Rectangular; Test Current: 2mA; Dominant Wavelength: 606nm; Luminous Flux: 0.025lm; Number of LEDs: 1; Supplier 1: Newark; Stock 1: 0; RoHS: Yes; Mount: Surface Mount; Case/Package: 0603; Number of Pins: 2; Color: Orange; Case Code (Metric): 1608; Case Code (Imperial): 0603; Min Operating Temperature: -40°C; Max Operating Temperature: 100°C; Illumination Color: Orange; Packaging: Tape and Reel; Package Quantity: 5000; Length: 1.7mm; Height: 0.65mm; Width: 0.8mm; ComponentLink1URL: https://datasheet.ciiva.com/2112/00077105-0-2112904.pdf?src-supplier=Digi-Key; ComponentLink1Description: https://datasheet.ciiva.com/2112/00077105-0-2112904.pdf?src-supplier=Digi-Key; ComponentLink2URL: https://datasheet.ciiva.com/2112/00077105-0-2112905.pdf?src-supplier=Digi-Key; ComponentLink2Description: https://datasheet.ciiva.com/2112/00077105-0-2112905.pdf?src-supplier=Digi-Key; ComponentLink3URL: https://datasheet.ciiva.com/2112/00077105-0-2112906.pdf?src-supplier=Digi-Key; ComponentLink3Description: https://datasheet.ciiva.com/2112/00077105-0-2112906.pdf?src-supplier=Digi-Key; ComponentLink4URL: https://datasheet.ciiva.com/15198/getdatasheetpartid-693885-15198412.pdf?src-supplier=Verical; ComponentLink4Description: https://datasheet.ciiva.com/15198/getdatasheetpartid-693885-15198412.pdf?src-supplier=Verical; Supplier Part Number 1: 32AC1122
footprint Led sfsmntd
pins: 1 Cathode, 2 Anode

## M20-7820646
designator J?, comment HDR Female_6
06-WAY SIL VERT SOCKET L/FREE; Manufacturer 1: Harwin; Manufacturer Part Number 1: M20-7820646; Number of Contacts: 6; Max Current Rating: 3A; Contact Resistance: 20mR; Connector Type: Receptacle,Socket; Gender: Female; Pitch: 2.54mm; Supplier 1: Digi-Key; Stock 1: 1938; Pricing 1: 1=0.96000, 10=0.84200, 100=0.72600, 500=0.59400, 1000=0.52800, 5000=0.46200, 10000=0.43890 (USD); RoHS: Yes; Mount: Through Hole; Case/Package: SIL; Color: Black; Contact Plating: Tin; Contact Material: Bronze; Housing Color: Black; Housing Material: Nylon; Min Operating Temperature: -40°C; Max Operating Temperature: 105°C; Number of Rows: 1; Termination: Solder; Packaging: Rail/Tube; Contact Gender: Female; Package Quantity: 38; Number of Positions: 6; Orientation: Straight; Length: 15.64mm; Depth: 2.5mm; Radiation Hardening: No; ComponentLink1URL: http://components.arrow.com/part/dataview/0323_00725884?src-supplier=Arrow+Europe; ComponentLink1Description: http://components.arrow.com/part/dataview/0323_00725884?src-supplier=Arrow+Europe; ComponentLink2URL: http://www.harwin.com/include/downloads/pdfs/2010PAGE120.PDF?src-supplier=Avnet; ComponentLink2Description: http://www.harwin.com/include/downloads/pdfs/2010PAGE120.PDF?src-supplier=Avnet; ComponentLink3URL: https://cdn.harwin.com/pdfs/M20-782.pdf?src-supplier=Digi-Key; ComponentLink3Description: https://cdn.harwin.com/pdfs/M20-782.pdf?src-supplier=Digi-Key; ComponentLink4URL: https://cdn.harwin.com/pdfs/Harwin_PC_Connectors_M20.pdf?src-supplier=Avnet+Europe; ComponentLink4Description: https://cdn.harwin.com/pdfs/Harwin_PC_Connectors_M20.pdf?src-supplier=Avnet+Europe; ComponentLink5URL: https://cdn.harwin.com/pdfs/Harwin_PC_Connectors_M20.pdf?src-supplier=Mouser; ComponentLink5Description: https://cdn.harwin.com/pdfs/Harwin_PC_Connectors_M20.pdf?src-supplier=Mouser; ComponentLink6URL: https://cdn.harwin.com/pdfs/Harwin_PC_Connectors_M20.pdf?src-supplier=RSComponents; ComponentLink6Description: https://cdn.harwin.com/pdfs/Harwin_PC_Connectors_M20.pdf?src-supplier=RSComponents; ComponentLink7URL: https://cdn.harwin.com/pdfs/Harwin_PC_Connectors_M20.pdf?src-supplier=TTI; ComponentLink7Description: https://cdn.harwin.com/pdfs/Harwin_PC_Connectors_M20.pdf?src-supplier=TTI; Supplier Part Number 1: 952-1809-ND
footprint HDR Female_6
pins: 1, 2, 3, 4, 5, 6

## M20-7820842
designator J?, comment HDR Femal
08-WAY SIL VERT SOCKET L/FREE; Manufacturer 1: Harwin; Manufacturer Part Number 1: M20-7820842; Number of Contacts: 8; Max Current Rating: 3A; Contact Resistance: 20mR; Connector Type: Receptacle,Socket; Gender: Female; Pitch: 2.54mm; Supplier 1: Digi-Key; Stock 1: 3564; Pricing 1: 1=1.10000, 10=0.97200, 100=0.83820, 500=0.68580, 1000=0.60960, 5000=0.53340, 10000=0.50673 (USD); RoHS: Yes; Mount: Through Hole; Case/Package: SIL; Weight: 0.025397oz; Contact Plating: Tin,Gold; Color: Black; Contact Material: Bronze; Housing Color: Black; Housing Material: Polyamide; Min Operating Temperature: -40°C; Max Operating Temperature: 105°C; Number of Rows: 1; Termination: Solder; Contact Gender: Female; Package Quantity: 29; Packaging: Rail/Tube; Number of Positions: 8; Orientation: Straight; Length: 20.72mm; Depth: 2.5mm; Radiation Hardening: No; ComponentLink1URL: https://datasheet.ciiva.com/16732/m20-782-16732663.pdf?src-supplier=Avnet+Europe; ComponentLink1Description: https://datasheet.ciiva.com/16732/m20-782-16732663.pdf?src-supplier=Avnet+Europe; ComponentLink2URL: https://datasheet.ciiva.com/9480/m20-782-9480074.pdf?src-supplier=Avnet; ComponentLink2Description: https://datasheet.ciiva.com/9480/m20-782-9480074.pdf?src-supplier=Avnet; Supplier Part Number 1: 952-1823-ND
footprint HDR Female_8
pins: 1, 2, 3, 4, 5, 6, 7, 8

## M20-7821046
designator J?, comment HDR Female_10
10-WAY SIL VERT SOCKET L/FREE; Manufacturer 1: Harwin; Manufacturer Part Number 1: M20-7821046; Number of Positions: 10; Gender: Receptacle; Connector Type: Receptacle,Socket; Max Current Rating: 3A; Contact Resistance: 20mR; Mating Cycles: 50; Insulation Resistance: 1MR; Pitch: 2.54mm; Hole Diameter: 0.8mm; Supplier 1: Digi-Key; Stock 1: 336; Pricing 1: 1=1.28000, 10=1.12200, 100=0.96800, 500=0.79200, 1000=0.70400, 5000=0.61600, 10000=0.58520 (USD); RoHS: Yes; Mount: Through Hole; Case/Package: SIL; Contact Plating: Tin; Color: Black; Contact Material: Bronze; Housing Color: Black; Housing Material: Polyamide; Min Operating Temperature: -40°C; Max Operating Temperature: 105°C; Packaging: Rail/Tube; Number of Rows: 1; Termination: Solder; Contact Gender: Female; Orientation: Straight; Package Quantity: 23; Number of Contacts: 10; Current Rating: 3A; Length: 25.8mm; Depth: 2.5mm; Lead Pitch: 2.54mm; Radiation Hardening: No; REACH SVHC: No SVHC; ComponentLink1URL: https://datasheet.ciiva.com/11753/0900766b80dc1d2b-11753869.pdf?src-supplier=RSComponents; ComponentLink1Description: https://datasheet.ciiva.com/11753/0900766b80dc1d2b-11753869.pdf?src-supplier=RSComponents; ComponentLink2URL: https://datasheet.ciiva.com/26899/getdatasheetpartid-559226-26899379.pdf?src-supplier=Verical; ComponentLink2Description: https://datasheet.ciiva.com/26899/getdatasheetpartid-559226-26899379.pdf?src-supplier=Verical; ComponentLink3URL: https://datasheet.ciiva.com/16732/m20-782-16732152.pdf?src-supplier=Avnet+Europe; ComponentLink3Description: https://datasheet.ciiva.com/16732/m20-782-16732152.pdf?src-supplier=Avnet+Europe; ComponentLink4URL: https://datasheet.ciiva.com/6785/m20-782-6785605.pdf?src-supplier=Digi-Key; ComponentLink4Description: https://datasheet.ciiva.com/6785/m20-782-6785605.pdf?src-supplier=Digi-Key; ComponentLink5URL: https://datasheet.ciiva.com/10151/m20-782-10151366.pdf?src-supplier=Avnet; ComponentLink5Description: https://datasheet.ciiva.com/10151/m20-782-10151366.pdf?src-supplier=Avnet; Supplier Part Number 1: 952-1847-ND
footprint HDR Femal_10
pins: 1, 2, 3, 4, 5, 6, 7, 8, 9, 10

## MH. not plated
designator MH?  (value not drawn)  (no BOM)
footprint MH. not plated
pins: 1

## MM5Z5V1T1G
designator D?, comment zener SOD532 5.1V 10mA
ON SEMICONDUCTOR - MM5Z5V1T1G - Zener Single Diode, General Purpose, 5.1 V, 500 mW, SOD-523, 2, 150 C RoHS Compliant: Yes; Material: Plastic; Max Power Dissipation: 200mW; Tolerance: 6%; Forward Voltage: 900mV; Impedance: 60R; Max Reverse Leakage Current: 2uA; Test Current: 5mA; Power Rating: 100mW; Supplier 1: Digi-Key; Manufacturer 1: ON Semiconductor; Manufacturer Part Number 1: MM5Z5V1T1G; Stock 1: 14960; Pricing 1: 1=0.21000, 10=0.14400, 100=0.07680, 500=0.04400, 1000=0.03680 (USD); RoHS: Yes; Case/Package: SOD-523-2; Number of Pins: 2; Min Operating Temperature: -65°C; Max Operating Temperature: 150°C; Packaging: Tape and Reel; Package Quantity: 3000; Zener Voltage: 5.1V; Power Dissipation: 200mW; Working Voltage: 5.1V; Peak Reverse Current: 2uA; Element Configuration: Single; Voltage Rating (DC): 5.1V; Voltage Tolerance: 6%; Zener Current: 10mA; Length: 1.3mm; Height: 0.7mm; Width: 0.9mm; Radiation Hardening: No; Lead Free: Lead Free; REACH SVHC: No SVHC; ComponentLink1URL: https://datasheet.ciiva.com/15142/getdatasheetpartid-53273-15142116.pdf?src-supplier=Verical; ComponentLink1Description: https://datasheet.ciiva.com/15142/getdatasheetpartid-53273-15142116.pdf?src-supplier=Verical; ComponentLink2URL: https://datasheet.ciiva.com/30478/0900766b81276ad7-30478633.pdf?src-supplier=RSComponents; ComponentLink2Description: https://datasheet.ciiva.com/30478/0900766b81276ad7-30478633.pdf?src-supplier=RSComponents; ComponentLink3URL: https://datasheet.ciiva.com/900/mm5z2v4t1-d-900082.pdf?src-supplier=Digi-Key; ComponentLink3Description: https://datasheet.ciiva.com/900/mm5z2v4t1-d-900082.pdf?src-supplier=Digi-Key; ComponentLink4URL: https://datasheet.ciiva.com/900/mm5z2v4t1-d-900083.pdf?src-supplier=Digi-Key; ComponentLink4Description: https://datasheet.ciiva.com/900/mm5z2v4t1-d-900083.pdf?src-supplier=Digi-Key; ComponentLink5URL: https://datasheet.ciiva.com/900/mm5z2v4t1-d-900084.pdf?src-supplier=Digi-Key; ComponentLink5Description: https://datasheet.ciiva.com/900/mm5z2v4t1-d-900084.pdf?src-supplier=Digi-Key; ComponentLink6URL: https://datasheet.ciiva.com/8347/mm5z2v4t1-d-8347925.pdf?src-supplier=Avnet; ComponentLink6Description: https://datasheet.ciiva.com/8347/mm5z2v4t1-d-8347925.pdf?src-supplier=Avnet; ComponentLink7URL: https://datasheet.ciiva.com/8347/mm5z2v4t1-d-8347930.pdf?src-supplier=Avnet; ComponentLink7Description: https://datasheet.ciiva.com/8347/mm5z2v4t1-d-8347930.pdf?src-supplier=Avnet; ComponentLink8URL: https://datasheet.ciiva.com/26092/mm5z2v4t1-d-26092203.pdf?src-supplier=Avnet+Europe; ComponentLink8Description: https://datasheet.ciiva.com/26092/mm5z2v4t1-d-26092203.pdf?src-supplier=Avnet+Europe; Supplier Part Number 1: MM5Z5V1T1GOSCT-ND
footprint Zener SOD532
pins: 1 K, 2 A

## Mount holes
designator MH?  (no BOM)
footprint MH
pins: 1

## MPZ2012S101AT000
designator FB?, comment Ferrite Bead  Supplier Part Number 1: 445-1567-1-ND
TDK         MPZ2012S101AT000            FERRITE BEAD, 0.02OHM, 4A, 0805, FULL REEL; Impedance: 100R; DC Resistance (DCR): 20mR; Tolerance: 25%; Test Frequency: 100MHz; Supplier 1: Digi-Key; Manufacturer 1: TDK; Manufacturer Part Number 1: MPZ2012S101AT000; Stock 1: 341323; Pricing 1: 1=0.11000, 10=0.09100, 25=0.07040, 50=0.05840, 100=0.05030, 250=0.04028, 500=0.03624, 1000=0.03020 (USD); RoHS: Yes; Mount: Surface Mount; Case/Package: 0805; Weight: 0.000194oz; Case Code (Metric): 2012; Case Code (Imperial): 0805; Min Operating Temperature: -55°C; Max Operating Temperature: 125°C; Packaging: Tape and Reel; Package Quantity: 4000; Current Rating: 4A; Max DC Current: 4A; Termination: SMD/SMT; Length: 0.079inch; Height: 0.041inch; Width: 0.049inch; REACH SVHC: No SVHC; Lead Free: Lead Free; ComponentLink1URL: https://datasheet.ciiva.com/46634/beads-commercial-power-mpz-en-46634375.pdf?src-supplier=Digi-Key; ComponentLink1Description: https://datasheet.ciiva.com/46634/beads-commercial-power-mpz-en-46634375.pdf?src-supplier=Digi-Key; ComponentLink2URL: https://datasheet.ciiva.com/46634/beads-commercial-power-mpz-en-46634411.pdf?src-supplier=Digi-Key; ComponentLink2Description: https://datasheet.ciiva.com/46634/beads-commercial-power-mpz-en-46634411.pdf?src-supplier=Digi-Key; ComponentLink3URL: https://datasheet.ciiva.com/46634/beads-commercial-power-mpz-en-46634415.pdf?src-supplier=Digi-Key; ComponentLink3Description: https://datasheet.ciiva.com/46634/beads-commercial-power-mpz-en-46634415.pdf?src-supplier=Digi-Key
footprint Cap 0805
pins: 1, 2

## NTCS0805E3103FLT
designator R?, comment 10K NTC Thermistor
THERMISTOR NTC 10KOHM 3430K 0805; Manufacturer 1: Vishay BCcomponents; Manufacturer Part Number 1: NTCS0805E3103FLT; Tolerance: 1%; Power Rating: 210mW; Resistance: 10kR; Accuracy: 3%; Supplier 1: Mouser; Stock 1: 41423; Pricing 1: 1=0.95000, 10=0.76800, 100=0.58300, 500=0.48200, 1000=0.38500, 4000=0.32500 (USD); RoHS: Yes; Mount: Surface Mount; Case/Package: 0805; Number of Pins: 2; Case Code (Imperial): 0805; Case Code (Metric): 2012; Contact Plating: Tin; Min Operating Temperature: -40°C; Max Operating Temperature: 150°C; Package Quantity: 4000; Packaging: Tape and Reel; Termination: SMD/SMT; Max Power Dissipation: 210mW; Length: 2mm; Height: 0.8mm; Width: 1.25mm; Depth: 1.25mm; ComponentLink1URL: https://datasheet.ciiva.com/2848/ntcs0805e3t-2848866.pdf?src-supplier=Digi-Key; ComponentLink1Description: https://datasheet.ciiva.com/2848/ntcs0805e3t-2848866.pdf?src-supplier=Digi-Key; ComponentLink2URL: https://datasheet.ciiva.com/2848/ntcs0805e3t-2848864.pdf?src-supplier=Digi-Key; ComponentLink2Description: https://datasheet.ciiva.com/2848/ntcs0805e3t-2848864.pdf?src-supplier=Digi-Key; ComponentLink3URL: https://datasheet.ciiva.com/2848/ntcs0805e3t-2848865.pdf?src-supplier=Digi-Key; ComponentLink3Description: https://datasheet.ciiva.com/2848/ntcs0805e3t-2848865.pdf?src-supplier=Digi-Key; Supplier Part Number 1: 594-NTCS0805E3103FLT
footprint R0805
pins: 1, 2

## NTTFS4H05NTAG
designator Q?, comment N channel mosfet
Single N−Channel Power MOSFET 25V, 94A, 3.3mΩ; Manufacturer 1: ON Semiconductor; Manufacturer Part Number 1: NTTFS4H05NTAG; Rds On Max: 3.3mR; Input Capacitance: 1.205nF; Max Power Dissipation: 2.66W; Supplier 1: Mouser; Stock 1: 792; Pricing 1: 1=1.39000, 10=1.18000, 100=0.89600, 250=0.87000, 500=0.75200, 1000=0.62000 (USD); RoHS: Yes; Mount: Surface Mount; Number of Pins: 8; Package Quantity: 1500; Packaging: Tape and Reel; Drain to Source Voltage (Vdss): 25V; Continuous Drain Current (ID): 94A; Lead Free: Lead Free; ComponentLink1URL: http://www.mouser.com/ds/2/308/NTTFS4H05N-D-463776.pdf?src-supplier=Mouser; ComponentLink1Description: http://www.mouser.com/ds/2/308/NTTFS4H05N-D-463776.pdf?src-supplier=Mouser; ComponentLink2URL: http://www.onsemi.com/pub/Collateral/NTTFS4H05N-D.PDF?src-supplier=Digi-Key; ComponentLink2Description: http://www.onsemi.com/pub/Collateral/NTTFS4H05N-D.PDF?src-supplier=Digi-Key; ComponentLink3URL: http://www.onsemi.com/pub/Collateral/NTTFS4H05N-D.PDF?src-supplier=Avnet; ComponentLink3Description: http://www.onsemi.com/pub/Collateral/NTTFS4H05N-D.PDF?src-supplier=Avnet; Supplier Part Number 1: 863-NTTFS4H05NTAG
footprint Power mosfet on semi
pins: D, G, S
text: N-CH

## Pad with hole
designator J?, comment Pad  (no BOM)
footprint Pad
pins: 1

## PHOTO
designator D?
Photosensitive Diode
footprint RAD0.1
pins: 1 A, 2 K

## Pins_Analog
designator J?, comment 1x8 Header
footprint Pins_Analog
pins: 0 A0, 1 A1, 2 A2, 3 A3, 4 A4, 5 A5, 6 A6, 7 A7

## Pins_Analog_2
designator J?, comment 1x8 Header
footprint Pins_Analog_2
pins: 8 A8, 9 A9, 10 A10, 11 A11, 12 A12, 13 A13, 14 A14, 15 A15

## Pins_Power
designator J?, comment 1x8 Header
footprint Pins_Power
pins: 1, 3.3V, 5V, GND, GND, IOAEF, RESET, Vin

## Pins_PWM
designator J?, comment 1x8 Header
footprint Pins_PWM
pins: 0, 1, 2, 3, 4, 5, 6, 7